# Altium schematic symbol library Power_Semiconductors.SchLib: 3 symbols
Pins are listed as number, name and electrical type; pins without a type are passive.

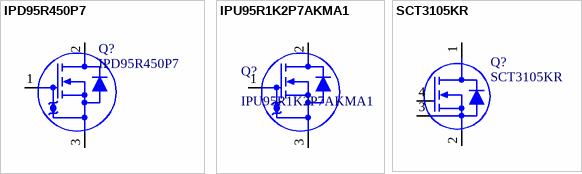
[diagram p0: symbols IPD95R450P7 to SCT3105KR]

## IPD95R450P7
designator Q?
MOSFET CoolMOS P7 SJ  950V 0.45 Ohm; Id - Continuous Drain Current: 14 A; Transistor Polarity: N-Channel; Supplier 1: Mouser; Supplier 2: Farnell; Supplier Part Number 1: 726-IPD95R450P7ATMA1; Supplier Part Number 2: 2916130; Vds - Drain-Source Breakdown Voltage: 950 V; Rds,on,max - Drain-Source Resistance: 0.45 Ohm; Package/Case: DPAK-3
footprint DPAK229P989X238-3N (D-PAK, 3-Pads, Body 6,20x6,73mm (max), IPC Medium Density)
pins: 1 G "Gate", 2 D "Drain", 3 S "Power Source"

## IPU95R1K2P7AKMA1
designator Q?
Trans MOSFET N-CH 600V 6A 3-Pin(3+Tab) TO-251 Tube - Infineon; Drain to Source Voltage (Vdss): 950V; Rds On Max: 1.2R; Input Capacitance: 478pF; Max Power Dissipation: 52W; Manufacturer: Infineon; Manufacturer Part Number: IPU95R1K2P7AKMA1; RoHS: No; Stock 1: 1606; Pricing 1: 1=1,44000, 10=1,28900, 25=1,22400, 100=0,91790, 250=0,90916, 500=0,77804, 1000=0,63380, 2500=0,62505, 5000=0,56823 (USD); Mount: Through Hole; Case/Package: TO-251-3; Min Operating Temperature: -55°C; Max Operating Temperature: 150°C; Packaging: Rail/Tube; Continuous Drain Current (ID): 6A; ComponentLink1URL: https://www.infineon.com/dgdl/Infineon-IPU95R1K2P7-DS-v02_00-EN.pdf?fileId=5546d462636cc8fb01643b6dc4e756f9&src-supplier=Digi-Key; ComponentLink1Description: https://www.infineon.com/dgdl/Infineon-IPU95R1K2P7-DS-v02_00-EN.pdf?fileId=5546d462636cc8fb01643b6dc4e756f9&src-supplier=Digi-Key; Supplier 1: Digi-Key; Supplier 2: Arrow; Supplier 3: Mouser; Supplier 4: Farnell; Supplier 5: Newark; Supplier Part Number 1: IPU95R1K2P7AKMA1-ND; Supplier Part Number 2: IPU95R1K2P7AKMA1; Supplier Part Number 3: 726-IPU95R1K2P7AKMA1; Supplier Part Number 4: 2916135; Supplier Part Number 5: 71AC0401
footprint IPAK (IPAK (TO 251-3) package MOSFET)
pins: 1 G "Gate", 2 D "Drain", 3 S "Power Source"

## SCT3105KR
designator Q?
N-channel SiC power MOSFET ROHM. Vdss 1200V, Rdson 105mOhm, Id 24A; Rds on @ Id, Vgs: 137 mOhm; Drive Voltage: 18 V; Gate Charge (Qg) (Max) @ Vds: 51 nC; Vgs Max: +22 V / -4 V; Input Capacitance (Ciss) (Max) @ Vds: 574pF @ 800V; Supplier 1: Mouser; Supplier 2: Digi-Key; Supplier 3: Farnell; Supplier 4: Newark; Supplier Part Number 4: 34AH2699; Supplier Part Number 3: 3241766; Supplier Part Number 2: 846-SCT3105KRC14-ND; Supplier Part Number 1: 755-SCT3105KRC14; FET type: N-Channel; Technology: SiC-FET; Drain-to-source voltage (Vdss): 1200 V; Current - continuous drain (Id) @ 25°C: 24 A; Package/Case: TO-247-4
footprint TO-247-4L_hsa (TO-247-4L package, horizontal, heat sink above)
pins: 1 D "Drain", 2 S "Power Source", 3 KS "Kelvin Source", 4 G "Gate"